# EAGLE library part SM5210-MINI (library sonmicro)
Mini Mifare Module with 2mm pitch pin header
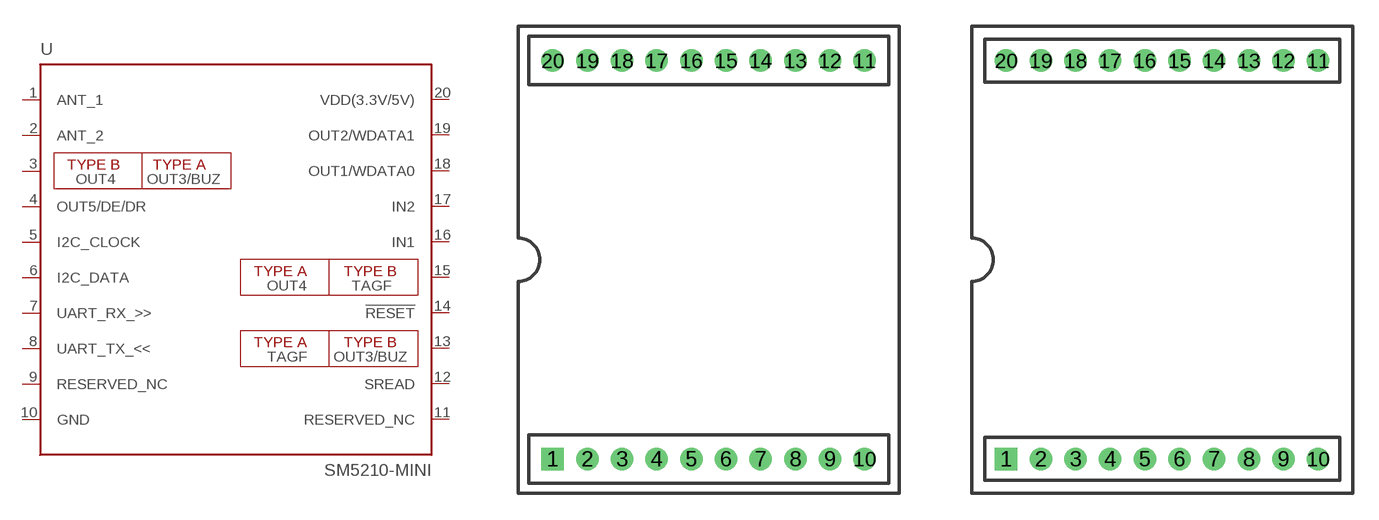
[diagram p0: symbol with the pads of SM5210-MINI-20; footprints SM5210-MINI-20, SM5210-MINI-20-WITHFEMALESOCK]

Designator prefix -

## SM5210-MINISTD  [SM5210-MINI-20]
1  ANT_1  pas
2  ANT_2  pas
3  OUT4/OUT3/BUZ  pas
4  OUT5/DE/DR  pas
5  I2C_CLOCK  pas
6  I2C_DATA  pas
7  UART_RX_>>  pas
8  UART_TX_<<  pas
9  RESERVED_NC  pas
10  GND  pas
11  RESERVED_NC  pas
12  SREAD  pas
13  OUT3/BUZ/TAGF  pas
14  !RESET!  pas
15  TAGF/OUT4  pas
16  IN1  pas
17  IN2  pas
18  OUT1/WDATA0  pas
19  OUT2/WDATA1  pas
20  VDD(3.3V/5V)  pas

## SM5210-MINIFEMALE_SOCK  [SM5210-MINI-20-WITHFEMALESOCK]
Pads as for SM5210-MINI-20

## Footprint SM5210-MINI-20 (pad centres in mm)
Mini20 package. 20 pin 2.0 mm pin pitch
drill 0.7 pad 1.3 square: 1 -9,-11.5
drill 0.7 pad 1.3: 2 -7,-11.5; 3 -5,-11.5; 4 -3,-11.5; 5 -1,-11.5; 6 1,-11.5; 7 3,-11.5; 8 5,-11.5; 9 7,-11.5; 10 9,-11.5; 11 9,11.5; 12 7,11.5; 13 5,11.5; 14 3,11.5; 15 1,11.5; 16 -1,11.5; 17 -3,11.5; 18 -5,11.5; 19 -7,11.5; 20 -9,11.5

## Footprint SM5210-MINI-20-WITHFEMALESOCK (pad centres in mm)
Mini20 package. 20 pin 2.0 mm pin pitch. Package is exactly same with SM5210-MINI-20. The prefix for -WITHFEMALESOCK is for3rd party 3d model tools( Module can be directly soldered to the base board or female 2mm socket can be used on the base board)
drill 0.7 pad 1.3 square: 1 -9,-11.5
drill 0.7 pad 1.3: 2 -7,-11.5; 3 -5,-11.5; 4 -3,-11.5; 5 -1,-11.5; 6 1,-11.5; 7 3,-11.5; 8 5,-11.5; 9 7,-11.5; 10 9,-11.5; 11 9,11.5; 12 7,11.5; 13 5,11.5; 14 3,11.5; 15 1,11.5; 16 -1,11.5; 17 -3,11.5; 18 -5,11.5; 19 -7,11.5; 20 -9,11.5